# Altium integrated library Altium Database Library V2.IntLib: 412 symbols (part 17 of 18)

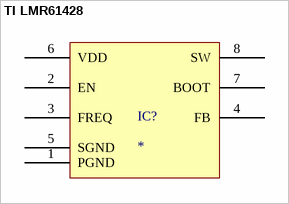
[diagram p368: symbol TI LMR61428]

## TI LMR61428
designator IC?
pins: 1 PGND, 2 EN, 3 FREQ, 4 FB, 5 SGND, 6 VDD, 7 BOOT, 8 SW


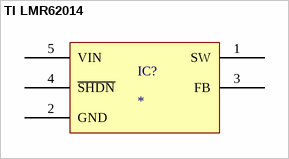
[diagram p369: symbol TI LMR62014]

## TI LMR62014
designator IC?
pins: 1 SW, 2 GND, 3 FB, 4 ~{SHDN}, 5 VIN


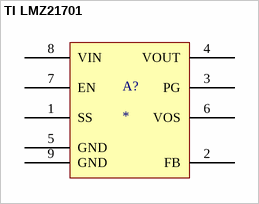
[diagram p370: symbol TI LMZ21701]

## TI LMZ21701
designator A?
pins: 1 SS, 2 FB, 3 PG, 4 VOUT, 5 GND, 6 VOS, 7 EN, 8 VIN, 9 GND


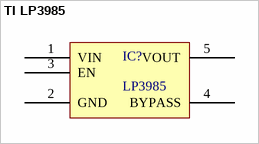
[diagram p371: symbol TI LP3985]

## TI LP3985
designator IC?, comment LP3985
Micropower 150mA Low-Noise Ultra Low-Dropout CMOS Voltage Regulator
pins: 1 VIN, 2 GND, 3 EN, 4 BYPASS, 5 VOUT


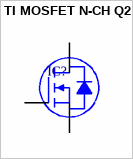
[diagram p372: symbol TI MOSFET N-CH Q2]

## TI MOSFET N-CH Q2
designator IC?
pins: 1 D, 1 5, 1 6, 1 8, 2 D, 3 G, 4 S, 7 S


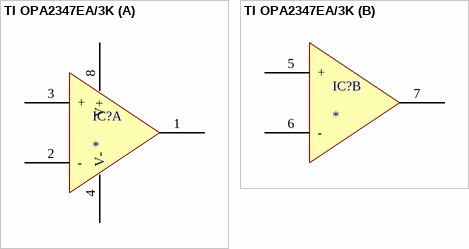
[diagram p373: symbol TI OPA2347EA/3K]

## TI OPA2347EA/3K
designator IC?
part A pins: 1 OUTA, 2 -, 3 +, 4 V-, 8 V+
part B pins: 5 +, 6 -, 7 OUTB


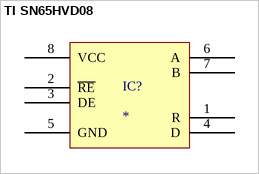
[diagram p374: symbol TI SN65HVD08]

## TI SN65HVD08
designator IC?
pins: 1 R, 2 ~{RE}, 3 DE, 4 D, 5 GND, 6 A, 7 B, 8 VCC


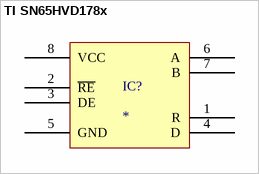
[diagram p375: symbol TI SN65HVD178x]

## TI SN65HVD178x
designator IC?
pins: 1 R, 2 ~{RE}, 3 DE, 4 D, 5 GND, 6 A, 7 B, 8 VCC


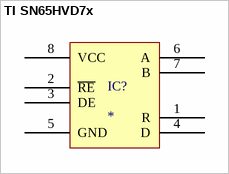
[diagram p376: symbol TI SN65HVD7x]

## TI SN65HVD7x
designator IC?
pins: 1 R, 2 ~{RE}, 3 DE, 4 D, 5 GND, 6 A, 7 B, 8 VCC


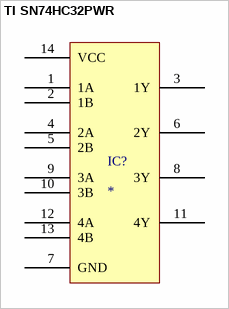
[diagram p377: symbol TI SN74HC32PWR]

## TI SN74HC32PWR
designator IC?
pins: 1 1A, 2 1B, 3 1Y, 4 2A, 5 2B, 6 2Y, 7 GND, 8 3Y, 9 3A, 10 3B, 11 4Y, 12 4A, 13 4B, 14 VCC


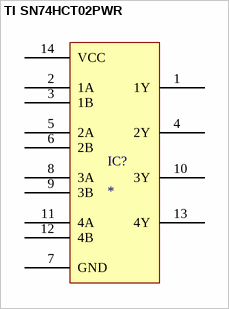
[diagram p378: symbol TI SN74HCT02PWR]

## TI SN74HCT02PWR
designator IC?
pins: 1 1Y, 2 1A, 3 1B, 4 2Y, 5 2A, 6 2B, 7 GND, 8 3A, 9 3B, 10 3Y, 11 4A, 12 4B, 13 4Y, 14 VCC


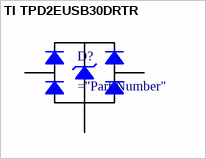
[diagram p379: symbol TI TPD2EUSB30DRTR]

## TI TPD2EUSB30DRTR
designator D?
Rectifier Diode
pins: 1 D+, 2 D-, 3 GND


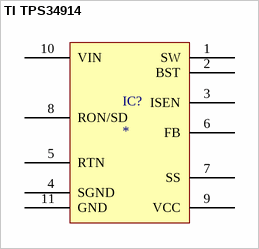
[diagram p380: symbol TI TPS34914]

## TI TPS34914
designator IC?
pins: 1 SW, 2 BST, 3 ISEN, 4 SGND, 5 RTN, 6 FB, 7 SS, 8 RON/SD, 9 VCC, 10 VIN, 11 GND


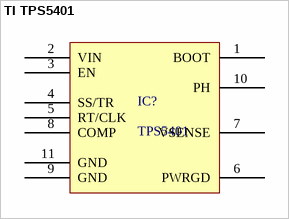
[diagram p381: symbol TI TPS5401]

## TI TPS5401
designator IC?, comment TPS5401
Buck Step Down Regulator with 3.5 to 42 V Input and 0.8 to 39 V Output
pins: 1 BOOT "A bootstrap capacitor is required between BOOT and PH. If the voltage on this capacitor is below the minimum required by the output device, the output is forced to switch off until the capacitor is refreshed.", 2 VIN (power) "Input supply voltage, 3.5 V to 42 V.", 3 EN "Enable pin, internal pullup current source. Pull below 1.2 V to disable. Float to enable. Adjust the input undervoltage lockout with two resistors.", 4 SS/TR "Slow-start and tracking. An external capacitor connected to this pin sets the output rise time. Because the voltage on this pin overrides the internal reference, it can be used for tracking and sequencing.", 5 RT/CLK "Resistor timing and external clock. An internal amplifier holds this pin at a fixed voltage when using an external resistor to ground to set the switching frequency. If the pin is pulled above the PLL upper threshold, a mode (See Datasheet)", 6 PWRGD (oc) "An open-drain output; asserts low if output voltage is low due to thermal shutdown, dropout, overvoltage or EN shutdown.", 7 VSENSE "Inverting node of the transconductance (gm) error amplifier.", 8 COMP "Error amplifier output, and input to the output switch current comparator. Connect frequency compensation components to this pin.", 9 GND (power) "Ground", 10 PH (power) "The source of the internal high-side power MOSFET", 11 GND (power) "GND pin must be electrically connected to the thermal pad on the printed circuit board for proper operation."


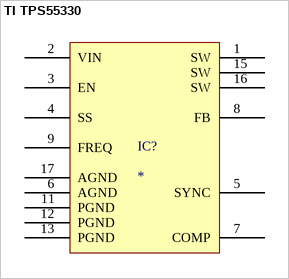
[diagram p382: symbol TI TPS55330]

## TI TPS55330
designator IC?
pins: 1 SW, 2 VIN, 3 EN, 4 SS, 5 SYNC, 6 AGND, 7 COMP, 8 FB, 9 FREQ, 11 PGND, 12 PGND, 13 PGND, 15 SW, 16 SW, 17 AGND


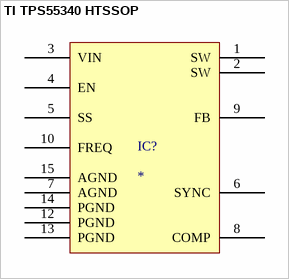
[diagram p383: symbol TI TPS55340 HTSSOP]

## TI TPS55340 HTSSOP
designator IC?
pins: 1 SW, 2 SW, 3 VIN, 4 EN, 5 SS, 6 SYNC, 7 AGND, 8 COMP, 9 FB, 10 FREQ, 12 PGND, 13 PGND, 14 PGND, 15 AGND


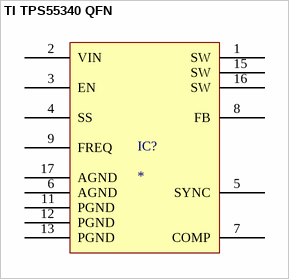
[diagram p384: symbol TI TPS55340 QFN]

## TI TPS55340 QFN
designator IC?
pins: 1 SW, 2 VIN, 3 EN, 4 SS, 5 SYNC, 6 AGND, 7 COMP, 8 FB, 9 FREQ, 11 PGND, 12 PGND, 13 PGND, 15 SW, 16 SW, 17 AGND


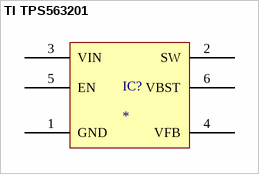
[diagram p385: symbol TI TPS563201]

## TI TPS563201
designator IC?
pins: 1 GND, 2 SW, 3 VIN, 4 VFB, 5 EN, 6 VBST


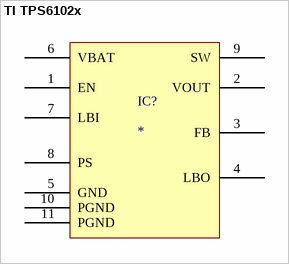
[diagram p386: symbol TI TPS6102x]

## TI TPS6102x
designator IC?
pins: 1 EN, 2 VOUT, 3 FB, 4 LBO, 5 GND, 6 VBAT, 7 LBI, 8 PS, 9 SW, 10 PGND, 11 PGND


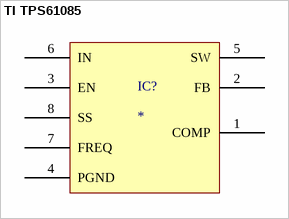
[diagram p387: symbol TI TPS61085]

## TI TPS61085
designator IC?
pins: 1 COMP, 2 FB, 3 EN, 4 PGND, 5 SW, 6 IN, 7 FREQ, 8 SS


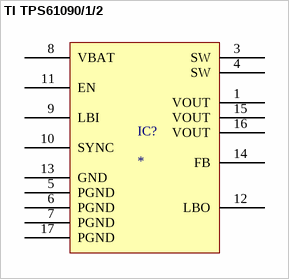
[diagram p388: symbol TI TPS61090/1/2]

## TI TPS61090/1/2
designator IC?
pins: 1 VOUT, 3 SW, 4 SW, 5 PGND, 6 PGND, 7 PGND, 8 VBAT, 9 LBI, 10 SYNC, 11 EN, 12 LBO, 13 GND, 14 FB, 15 VOUT, 16 VOUT, 17 PGND


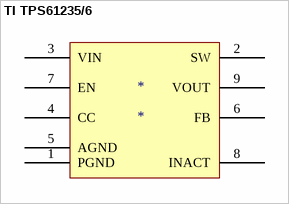
[diagram p389: symbol TI TPS61235/6]

## TI TPS61235/6
designator *
pins: 1 PGND, 2 SW, 3 VIN, 4 CC, 5 AGND, 6 FB, 7 EN, 8 INACT, 9 VOUT


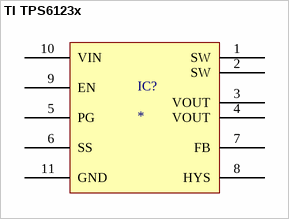
[diagram p390: symbol TI TPS6123x]

## TI TPS6123x
designator IC?
pins: 1 SW, 2 SW, 3 VOUT, 4 VOUT, 5 PG, 6 SS, 7 FB, 8 HYS, 9 EN, 10 VIN, 11 GND
